# EAGLE library part DRV8305 (library BLDC project)
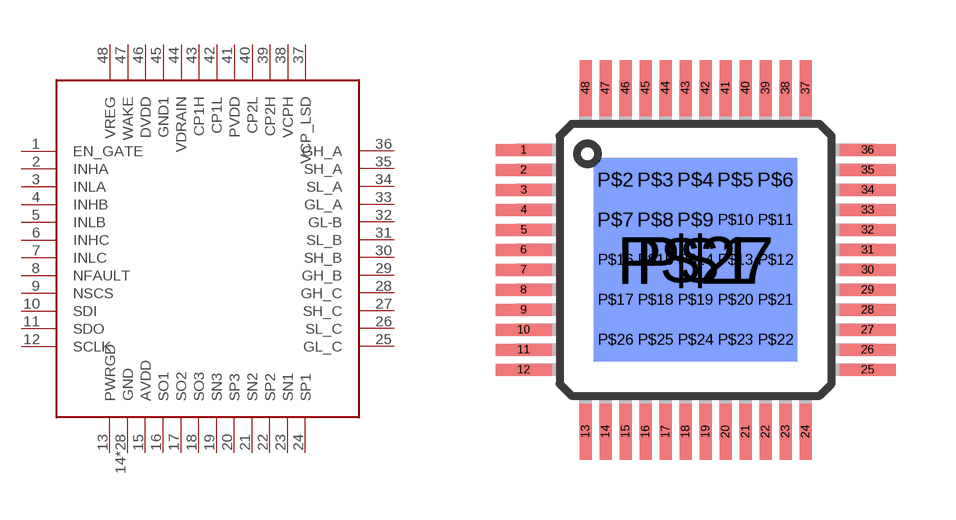
[diagram p0: symbol with the pads of PFB_S-PQFP-G48; footprint PFB_S-PQFP-G48]

Designator prefix -

## DRV8305  [PFB_S-PQFP-G48]
1  EN_GATE
2  INHA
3  INLA
4  INHB
5  INLB
6  INHC
7  INLC
8  NFAULT
9  NSCS
10  SDI
11  SDO
12  SCLK
13  PWRGD
14  GND
15  AVDD
16  SO1
17  SO2
18  SO3
19  SN3
20  SP3
21  SN2
22  SP2
23  SN1
24  SP1
25  GL_C
26  SL_C
27  SH_C
28  GH_C
29  GH_B
30  SH_B
31  SL_B
32  GL-B
33  GL_A
34  SL_A
35  SH_A
36  GH_A
37  VCP_LSD
38  VCPH
39  CP2H
40  CP2L
41  PVDD
42  CP1L
43  CP1H
44  VDRAIN
45  GND1
46  DVDD
47  WAKE
48  VREG
P$1  GND
P$2  GND
P$3  GND
P$4  GND
P$5  GND
P$6  GND
P$7  GND
P$8  GND
P$9  GND
P$10  GND
P$11  GND
P$12  GND
P$13  GND
P$14  GND
P$15  GND
P$16  GND
P$17  GND
P$18  GND
P$19  GND
P$20  GND
P$21  GND
P$22  GND
P$23  GND
P$24  GND
P$25  GND
P$26  GND
P$27  GND

## Footprint PFB_S-PQFP-G48 (pad centres in mm)
PFB (S-PQFP-G48) Source: http://focus.ti.com/lit/ds/symlink/pcm4220.pdf
smd 1.4 x 0.3: 1 -4.3,2.75; 2 -4.3,2.25; 3 -4.3,1.75; 4 -4.3,1.25; 5 -4.3,0.75; 6 -4.3,0.25; 7 -4.3,-0.25; 8 -4.3,-0.75; 9 -4.3,-1.25; 10 -4.3,-1.75; 11 -4.3,-2.25; 12 -4.3,-2.75; 25 4.3,-2.75; 26 4.3,-2.25; 27 4.3,-1.75; 28 4.3,-1.25; 29 4.3,-0.75; 30 4.3,-0.25; 31 4.3,0.25; 32 4.3,0.75; 33 4.3,1.25; 34 4.3,1.75; 35 4.3,2.25; 36 4.3,2.75
smd 0.3 x 1.4: 13 -2.75,-4.3; 14 -2.25,-4.3; 15 -1.75,-4.3; 16 -1.25,-4.3; 17 -0.75,-4.3; 18 -0.25,-4.3; 19 0.25,-4.3; 20 0.75,-4.3; 21 1.25,-4.3; 22 1.75,-4.3; 23 2.25,-4.3; 24 2.75,-4.3; 37 2.75,4.3; 38 2.25,4.3; 39 1.75,4.3; 40 1.25,4.3; 41 0.75,4.3; 42 0.25,4.3; 43 -0.25,4.3; 44 -0.75,4.3; 45 -1.25,4.3; 46 -1.75,4.3; 47 -2.25,4.3; 48 -2.75,4.3
smd 5 x 5: P$1 0,0
drill 0.305: P$2 -2,2; P$3 -1,2; P$4 0,2; P$5 1,2; P$6 2,2; P$7 -2,1; P$8 -1,1; P$9 0,1; P$10 1,1; P$11 2,1; P$12 2,0; P$13 1,0; P$14 0,0; P$15 -1,0; P$16 -2,0; P$17 -2,-1; P$18 -1,-1; P$19 0,-1; P$20 1,-1; P$21 2,-1; P$22 2,-2; P$23 1,-2; P$24 0,-2; P$25 -1,-2; P$26 -2,-2
smd 5.08 x 5.08 bottom: P$27 0,0